# Altium schematic symbol library 2015-02-06_17-04-49.SchLib: 24 symbols
Pins are listed as number, name and electrical type; pins without a type are passive.

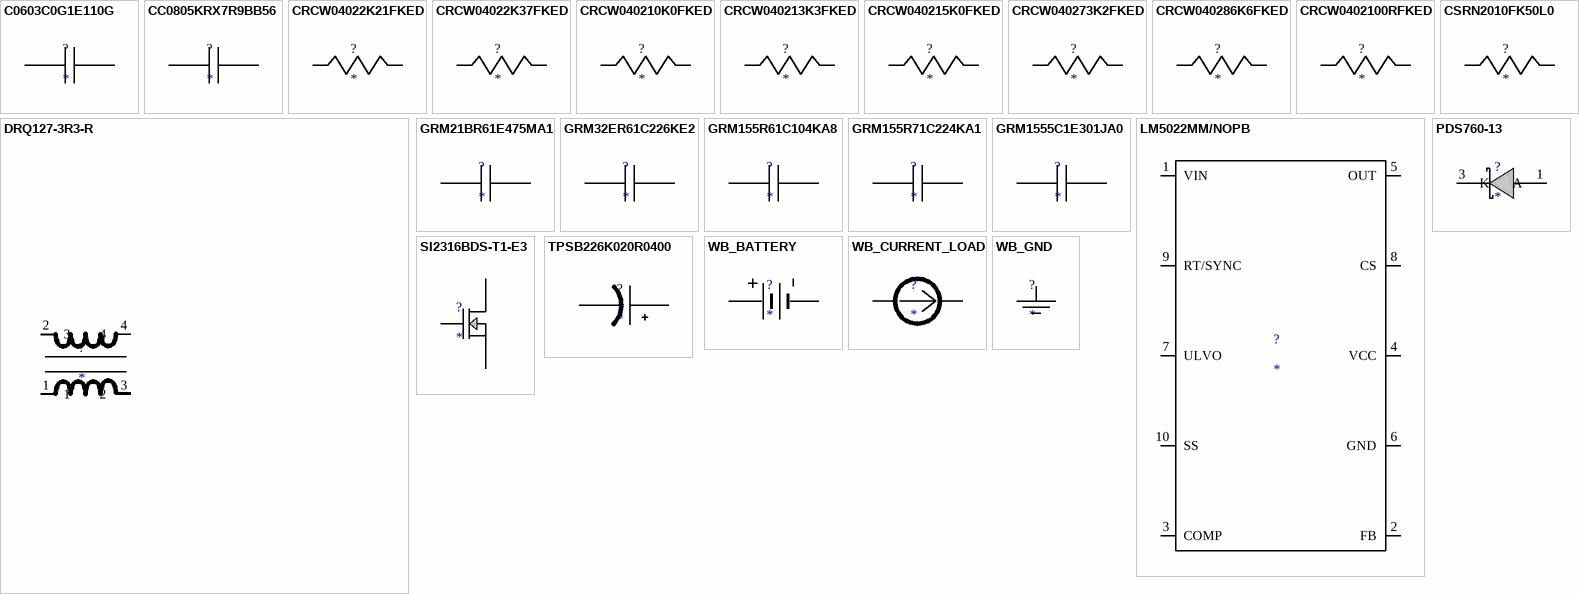
[diagram p0: symbols C0603C0G1E110G to WB_GND]

## C0603C0G1E110G
designator ?
Imported; Manufacturer_Part_Number: C0603C0G1E110G; Vendor: TDK; Manufacturer_Name: TDK; RefDes: RefDes; TYPE: TYPE; Value: Value
footprint 0201
pins: 1, 2

## CC0805KRX7R9BB56
designator ?
Imported; Manufacturer_Part_Number: CC0805KRX7R9BB561; Vendor: Yageo America; Manufacturer_Name: Yageo America; RefDes: RefDes; TYPE: TYPE; Value: Value
footprint 0805
pins: 1, 2

## CRCW04022K21FKED
designator ?
Imported; Manufacturer_Part_Number: CRCW04022K21FKED; Vendor: Vishay-Dale; Manufacturer_Name: Vishay-Dale; RefDes: RefDes; TYPE: TYPE; Value: Value
footprint 0402
pins: 1, 2

## CRCW04022K37FKED
designator ?
Imported; Manufacturer_Part_Number: CRCW04022K37FKED; Vendor: Vishay-Dale; Manufacturer_Name: Vishay-Dale; RefDes: RefDes; TYPE: TYPE; Value: Value
footprint 0402
pins: 1, 2

## CRCW040210K0FKED
designator ?
Imported; Manufacturer_Part_Number: CRCW040210K0FKED; Vendor: Vishay-Dale; Manufacturer_Name: Vishay-Dale; RefDes: RefDes; TYPE: TYPE; Value: Value
footprint 0402
pins: 1, 2

## CRCW040213K3FKED
designator ?
Imported; Manufacturer_Part_Number: CRCW040213K3FKED; Vendor: Vishay-Dale; Manufacturer_Name: Vishay-Dale; RefDes: RefDes; TYPE: TYPE; Value: Value
footprint 0402
pins: 1, 2

## CRCW040215K0FKED
designator ?
Imported; Manufacturer_Part_Number: CRCW040215K0FKED; Vendor: Vishay-Dale; Manufacturer_Name: Vishay-Dale; RefDes: RefDes; TYPE: TYPE; Value: Value
footprint 0402
pins: 1, 2

## CRCW040273K2FKED
designator ?
Imported; Manufacturer_Part_Number: CRCW040273K2FKED; Vendor: Vishay-Dale; Manufacturer_Name: Vishay-Dale; RefDes: RefDes; TYPE: TYPE; Value: Value
footprint 0402
pins: 1, 2

## CRCW040286K6FKED
designator ?
Imported; Manufacturer_Part_Number: CRCW040286K6FKED; Vendor: Vishay-Dale; Manufacturer_Name: Vishay-Dale; RefDes: RefDes; TYPE: TYPE; Value: Value
footprint 0402
pins: 1, 2

## CRCW0402100RFKED
designator ?
Imported; Manufacturer_Part_Number: CRCW0402100RFKED; Vendor: Vishay-Dale; Manufacturer_Name: Vishay-Dale; RefDes: RefDes; TYPE: TYPE; Value: Value
footprint 0402
pins: 1, 2

## CSRN2010FK50L0
designator ?
Imported; Manufacturer_Part_Number: CSRN2010FK50L0; Vendor: Stackpole Electronics Inc; Manufacturer_Name: Stackpole Electronics Inc; RefDes: RefDes; TYPE: TYPE; Value: Value
footprint 2010
pins: 1, 2

## DRQ127-3R3-R
designator ?
Imported; Manufacturer_Part_Number: DRQ127-3R3-R; Vendor: Coiltronics; Type: SMT; Manufacturer_Name: Coiltronics; RefDes: RefDes; Value: Value
footprint DRQ127
pins: 1, 2 3, 3 2, 4

## GRM21BR61E475MA1
designator ?
Imported; Manufacturer_Part_Number: GRM21BR61E475MA12L; Vendor: MuRata; Manufacturer_Name: MuRata; RefDes: RefDes; TYPE: TYPE; Value: Value
footprint 0805
pins: 1, 2

## GRM32ER61C226KE2
designator ?
Imported; Manufacturer_Part_Number: GRM32ER61C226KE20L; Vendor: MuRata; Manufacturer_Name: MuRata; RefDes: RefDes; TYPE: TYPE; Value: Value
footprint 1210
pins: 1, 2

## GRM155R61C104KA8
designator ?
Imported; Manufacturer_Part_Number: GRM155R61C104KA88D; Vendor: MuRata; Manufacturer_Name: MuRata; RefDes: RefDes; TYPE: TYPE; Value: Value
footprint 0402
pins: 1, 2

## GRM155R71C224KA1
designator ?
Imported; Manufacturer_Part_Number: GRM155R71C224KA12D; Vendor: MuRata; Manufacturer_Name: MuRata; RefDes: RefDes; TYPE: TYPE; Value: Value
footprint 0402
pins: 1, 2

## GRM1555C1E301JA0
designator ?
Imported; Manufacturer_Part_Number: GRM1555C1E301JA01D; Vendor: MuRata; Manufacturer_Name: MuRata; RefDes: RefDes; TYPE: TYPE; Value: Value
footprint 0402
pins: 1, 2

## LM5022MM/NOPB
designator ?
Imported; Manufacturer_Part_Number: LM5022MM/NOPB; Vendor: Texas Instruments; Manufacturer_Name: Texas Instruments; RefDes: RefDes; TYPE: TYPE; Value: Value
footprint MUB10A
pins: 1 VIN, 2 FB, 3 COMP, 4 VCC, 5 OUT, 6 GND, 7 ULVO, 8 CS, 9 RT/SYNC, 10 SS

## PDS760-13
designator ?
Imported; Manufacturer_Part_Number: PDS760-13; Vendor: Diodes Inc.; Manufacturer_Name: Diodes Inc.; RefDes: RefDes; TYPE: TYPE; Value: Value
footprint PowerDI5
pins: 1 A, 2 A, 3 K

## SI2316BDS-T1-E3
designator ?
Imported; Manufacturer_Part_Number: SI2316BDS-T1-E3; Vendor: Vishay-Siliconix; Manufacturer_Name: Vishay-Siliconix; RefDes: RefDes; TYPE: TYPE; Value: Value
footprint SOT-23
pins: 1 Gate, 2 Source, 3 Drain

## TPSB226K020R0400
designator ?
Imported; Manufacturer_Part_Number: TPSB226K020R0400; Vendor: AVX; Manufacturer_Name: AVX; RefDes: RefDes; TYPE: TYPE; Value: Value
footprint 3528-21
pins: 1 +, 2 -

## WB_BATTERY
designator ?
Imported; Manufacturer_Part_Number: WB_BATTERY; PowerPortType: POWER_GROUND; Value: Value; Manufacturer_Name: WB_BATTERY; RefDes: RefDes; TYPE: TYPE
pins: 1 +, 2 -

## WB_CURRENT_LOAD
designator ?
Imported; Manufacturer_Part_Number: WB_CURRENT_LOAD; PowerPortType: POWER_GROUND; Value: Value; Manufacturer_Name: WB_CURRENT_LOAD; RefDes: RefDes; TYPE: TYPE
pins: 1 +, 2 -

## WB_GND
designator ?
Imported; Manufacturer_Part_Number: WB_GND; PowerPortType: POWER_GROUND; Value: Value; Manufacturer_Name: WB_GND; RefDes: RefDes; TYPE: TYPE
pins: 1